# Altium schematic symbol library ММС схема D650.SCHLIB: 18 symbols
Pins are listed as number, name and electrical type; pins without a type are passive.

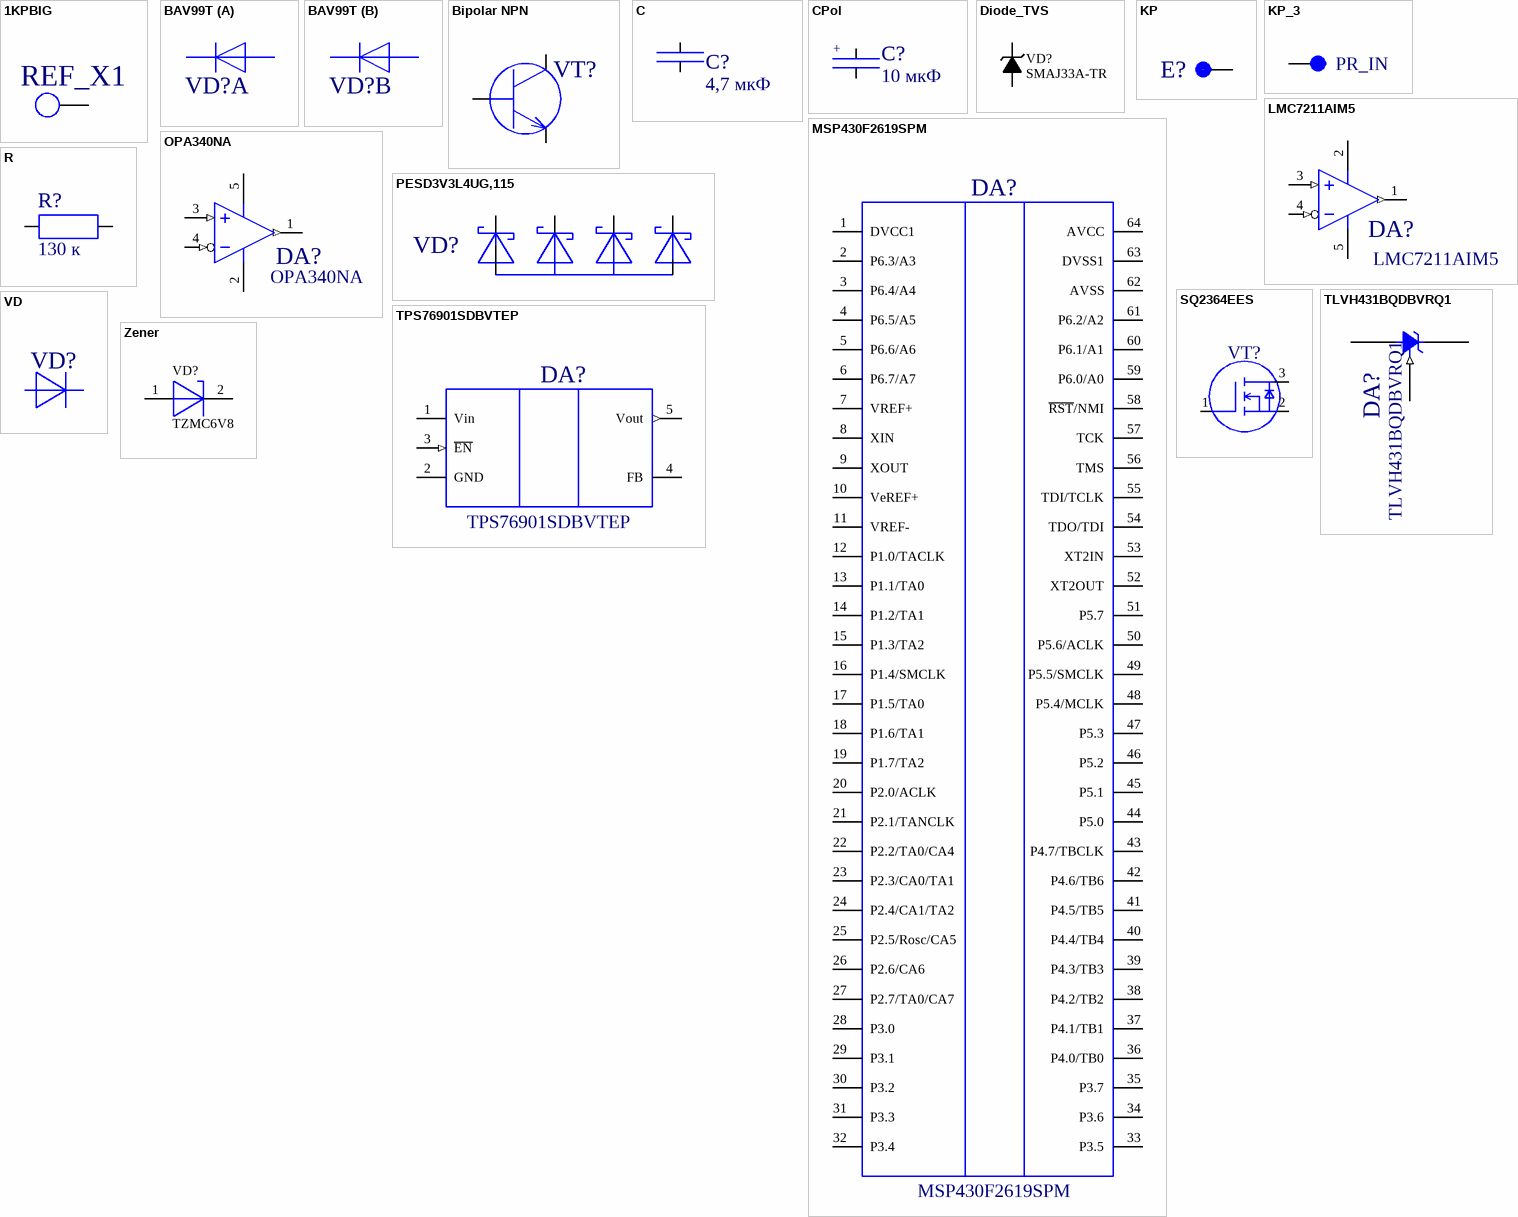
[diagram p0: symbols 1KPBIG to Zener]

## 1KPBIG
designator E?, comment REF_X1  (no BOM)
Part Number: 1KPBIG; ValueBOM: Контактная площадка; КЛАСС: Розетка; ValueSCH: Розетка 1KPBIG; ТИП: 1KPBIG; Type: X
footprint HOLES_1 mm
pins: 1

## BAV99T
designator VD?  (value not drawn)
Диод BAV99T; ValueBOM: Диод BAV99T Diodes; ГОСТ: Diodes; Type: VD; Part Number: BAV99T; КЛАСС: Диод; ValueSCH: BAV99T
footprint SOT523
part A pins: 2 K1, 3 A1
part B pins: 1 A2, 3 K2

## Bipolar NPN
designator VT?
Транзистор биполярный NPN; U=400 В;  I=0,5 А; TO92; -55С..+200С; PartNumber: ZTX658; Manufacturer: Diodes Inc; ID: IDBIPOLAR0001; Voltage, V: 400; Current, A: 0,5; ValueBOM: Транзистор ZTX658 Diodes Inc; Channel: NPN; Package: TO92; Temperature: -55С..+200С; BOM: Транзистор биполярный NPN; U=400 В;  I=0,5 А; TO92; -55С..+200С
footprint TO92GOR
pins: 1 E, 2 B, 3 K

## C
designator C?, comment 4,7 мкФ
Керамический чип конденсатор 0805; 4,7 мкФ; 10%; 16 В; X8L; -55..+150; PartNumber: C2012X8L1C475K125AC; Manufacturer: TDK; ID: IDC08050013; Package, in: 0805; Voltage, V: 16; ValueBOM: Конденсатор C2012X8L1C475K125AC TDK; Value: 4,7 мкФ; Tolerance: 10%; TCC (Dielectric type): X8L; F10: -55..+150; BOM: Керамический чип конденсатор 0805; 4,7 мкФ; 10%; 16 В; X8L; -55..+150
footprint CC0805
pins: 1, 2

## CPol
designator C?, comment 10 мкФ
Танталовый чип конденсатор D Case; 10 мкФ; 10%; 50 В; -55..+150; PartNumber: T498D106K050ATE1K0; Manufacturer: KEMET; ID: IDCTant0001; Package, in: D Case; Voltage, V: 50; ValueBOM: Конденсатор T498D106K050ATE1K0 KEMET; Value: 10 мкФ; Tolerance: 10%; Temperature: -55..+150; BOM: Танталовый чип конденсатор D Case; 10 мкФ; 10%; 50 В; -55..+150
pins: 1, 2
text: +

## Diode_TVS
designator VD?, comment SMAJ33A-TR
Однонаправленый TVS диод If= А; Ur = 33В; SMA(DO-214AC); -55C..+150C; Manufacturer: ST Microelectronics; ID: VDTVS0004; Reverce Voltage, V: 33; ValueBOM: TVS диод SMAJ33A-TR ST Microelectronics; PartNumber: SMAJ33A-TR; Package, in: SMA(DO-214AC); Temperature: -55C..+150C; BOM: Однонаправленый TVS диод If= А; Ur = 33В; SMA(DO-214AC); -55C..+150C
footprint SMA(DO-214AC)
pins: 1 C, 2 A

## KP
designator E?  (value not drawn)  (no BOM)
Imbase Key: *
footprint DIP3_1.5
footprint DIP2_1.2
footprint DIP1.5_0.8
footprint Pl1.2x2.5
footprint Pl0.8x2
footprint KT15X23
footprint KT12X20
footprint KT08X15
footprint Pl0.8x0.8
footprint DIP2_1.2
footprint Holes_x2
footprint EDGE HOLE
pins: 1
1 alternate drawing of the same symbol

## KP_3
designator E?, comment PR_IN  (no BOM)
КП
footprint DIP2_1.2
footprint KP_SMD
footprint KT08X15
pins: 1

## LMC7211AIM5
designator DA?
Микросхема LMC7211AIM5; ValueBOM: Микросхемаv LMC7211AIM5 Texas Instruments; ГОСТ: Texas Instruments; КЛАСС: Микросхема; ValueSch: LMC7211AIM5; Package: SOT23-5; Part Number: LMC7211AIM5; Imbase Key: *
footprint SOT23-5
pins: 1 OUT (out), 2 V+ (power), 3 IN+ (in), 4 IN- (in), 5 V- (power)

## MSP430F2619SPM
designator DA?
Микроконтроллер 16 бит; 120 кБ flash; 4 кБ RAM; 12-Bit ADC; Dual DAC; 2 USCI; DMA; LQFP-64; -55..+150; Manufacturer: Texas Instruments; ID: MCU0003; ValueBOM: Микросхема MSP430F2619SPM Texas Instruments; PartNumber: MSP430F2619SPM; Package: LQFP-64; ValueSch: MSP430F2619SPM; BOM: Микроконтроллер 16 бит; 120 кБ flash; 4 кБ RAM; 12-Bit ADC; Dual DAC; 2 USCI; DMA; LQFP-64; -55..+150
footprint LQFP64_SMALL PADS
pins: 1 DVCC1, 2 P6.3/A3, 3 P6.4/A4, 4 P6.5/A5, 5 P6.6/A6, 6 P6.7/A7, 7 VREF+, 8 XIN, 9 XOUT, 10 VeREF+, 11 VREF-, 12 P1.0/TACLK, 13 P1.1/TA0, 14 P1.2/TA1, 15 P1.3/TA2, 16 P1.4/SMCLK, 17 P1.5/TA0, 18 P1.6/TA1, 19 P1.7/TA2, 20 P2.0/ACLK, 21 P2.1/TANCLK, 22 P2.2/TA0/CA4, 23 P2.3/CA0/TA1, 24 P2.4/CA1/TA2, 25 P2.5/Rosc/CA5, 26 P2.6/CA6, 27 P2.7/TA0/CA7, 28 P3.0, 29 P3.1, 30 P3.2, 31 P3.3, 32 P3.4, 33 P3.5, 34 P3.6, 35 P3.7, 36 P4.0/TB0, 37 P4.1/TB1, 38 P4.2/TB2, 39 P4.3/TB3, 40 P4.4/TB4, 41 P4.5/TB5, 42 P4.6/TB6, 43 P4.7/TBCLK, 44 P5.0, 45 P5.1, 46 P5.2, 47 P5.3, 48 P5.4/MCLK, 49 P5.5/SMCLK, 50 P5.6/ACLK, 51 P5.7, 52 XT2OUT, 53 XT2IN, 54 TDO/TDI, 55 TDI/TCLK, 56 TMS, 57 TCK, 58 ~{RST}/NMI, 59 P6.0/A0, 60 P6.1/A1, 61 P6.2/A2, 62 AVSS, 63 DVSS1, 64 AVCC

## OPA340NA
designator DA?
Микросхема OPA340NA; ValueBOM: Микросхема OPA340NA Texas Instruments; ГОСТ: Texas Instruments; Part Number: OPA340NA; КЛАСС: Микросхема; ValueSch: OPA340NA; Package: SOT23-5; Imbase Key: *
footprint SOT23-5
pins: 1 OUT (out), 2 V- (power), 3 IN+ (in), 4 IN- (in), 5 V+ (power)

## PESD3V3L4UG,115
designator VD?  (value not drawn)
Однонаправленый TVS диод If= А; Ur = 3,3В; SOT353; -65C..+150C; Manufacturer: Nexperia; ID: VDTVS0005; Reverce Voltage, V: 3,3; ValueBOM: TVS диод PESD3V3L4UG,115 Nexperia; PartNumber: PESD3V3L4UG,115; Package, in: SOT353; Temperature: -65C..+150C; BOM: Однонаправленый TVS диод If= А; Ur = 3,3В; SOT353; -65C..+150C
footprint SC70-5
pins: 1 K, 2 A, 3 K, 4 K, 5 K

## R
designator R?, comment 130 к
Чип резистор 0805; 130 кОм; 1%; 100 В; 0,125; PartNumber: RC0805FR-07130KL; Manufacturer: Yageo; ID: IDR08050005; Package, in: 0805; Voltage, V: 100; Power, W: 0,125; ValueBOM: Чип резистор RC0805FR-07130KL Yageo; Value: 130 к; Tolerance: 1%; TCR (ppm/°C): 100; BOM: Чип резистор 0805; 130 кОм; 1%; 100 В; 0,125; HelpURL: https://www.yageo.com/upload/media/product/products/datasheet/rchip/PYu-RC_Group_51_RoHS_L_11.pdf
footprint RC0805
pins: 1, 2

## SQ2364EES
designator VT?
Транзистор MOSFET N-channel; U=60 В; R=0,245 Ом; I=4 А; SOT-23; -55С..+175С; PartNumber: SQ2364EES; Manufacturer: Vishay; ID: IDMOSFET0002; Channel: N; Voltage, V: 60; Current, A: 4; Rds, Ohm: 0,245; ValueBOM: Транзистор SQ2364EES Vishay; Package: SOT-23; Temperature: -55С..+175С; BOM: Транзистор MOSFET N-channel; U=60 В; R=0,245 Ом; I=4 А; SOT-23; -55С..+175С
footprint SOT23-3
pins: 1 G, 2 S, 3 D

## TLVH431BQDBVRQ1
designator DA?
Линейный понижающий стабилизатор регулируемый 1.24..18В ; -50..+125; SOT23-5; Manufacturer: Texas Instruments; ID: LDO0007; ValueBOM: Микросхема TLVH431BQDBVRQ1 Texas Instruments; PartNumber: TLVH431BQDBVRQ1; Package: SOT23-5; Temperature: -55..+125; ValueSch: TLVH431BQDBVRQ1; BOM: Линейный понижающий стабилизатор регулируемый 1.24..18В ; -50..+125; SOT23-5
footprint SOT23-5
pins: 3 K, 4 REF (in), 5 A

## TPS76901SDBVTEP
designator DA?
Линейный понижающий стабилизатор регулируемый 1.2..4.5В ; Uвх 5..10В; Iвых 100 mA; -50..+150; SOT23-5; Manufacturer: Texas Instruments; ID: LDO0006; ValueBOM: Микросхема TPS76901SDBVTEP Texas Instruments; PartNumber: TPS76901SDBVTEP; Package: SOT23-5; Temperature: -55..+150; ValueSch: TPS76901SDBVTEP; BOM: Линейный понижающий стабилизатор регулируемый 1.2..4.5В ; Uвх 5..10В; Iвых 100 mA; -50..+150; SOT23-5
footprint SOT23-5
pins: 1 Vin (power), 2 GND (power), 3 ~{EN} (in), 4 FB, 5 Vout (out)

## VD
designator VD?
Диод If=1 А; Ur = 700В; SMA; -65C..+150C; PartNumber: US1M-13-F; Manufacturer: Diodes Incorporated; ID: VD000001; Reverce Voltage, V: 700; Current: 1; ValueBOM: Диод US1M-13-F Diodes Incorporated; Package, in: SMA; Temperature: -65C..+150C; BOM: Диод If=1 А; Ur = 700В; SMA; -65C..+150C
footprint SMA(DO-214AC)
pins: 1 A, 2 K

## Zener
designator VD?, comment TZMC6V8
Стабилитрон Iст=5 мА; Uст = 6,8В; MiniMELF; -65C..+175C; Manufacturer: VISHAY; ID: VDZn0001; Voltage, V: 6,8; Current: 5; ValueBOM: Стабилитрон TZMC6V8 VISHAY; PartNumber: TZMC6V8; Package, in: MiniMELF; Temperature: -65C..+175C; BOM: Стабилитрон Iст=5 мА; Uст = 6,8В; MiniMELF; -65C..+175C
footprint MiniMelf
pins: 1 A, 2 K